# EAGLE library part CS4234 (library Strutz Electronic Industries)
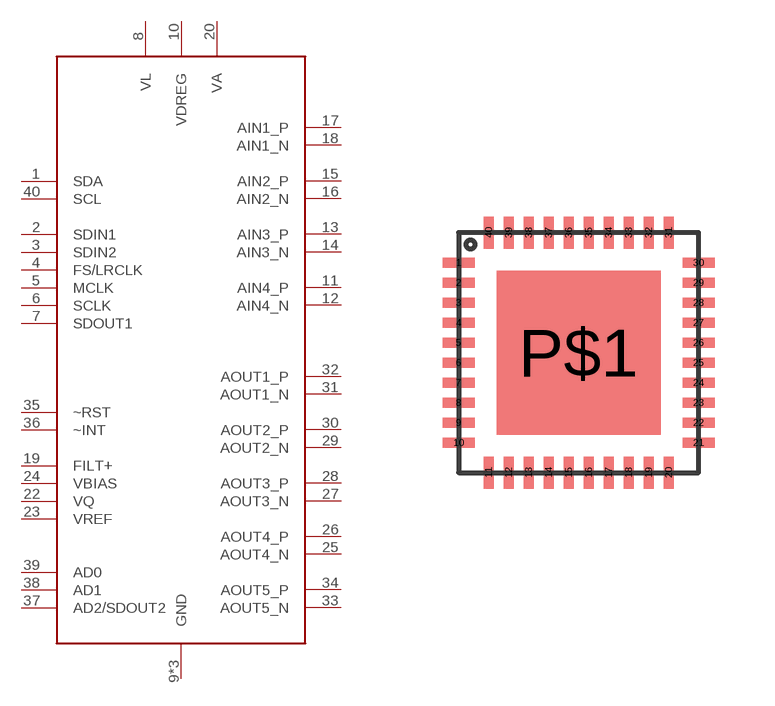
[diagram p52: symbol with the pads of QFN-40; footprint QFN-40]

Designator prefix -

## CS4234  [QFN-40]
1  SDA
2  SDIN1
3  SDIN2
4  FS/LRCLK
5  MCLK
6  SCLK
7  SDOUT1
8  VL
9  GND
10  VDREG
11  AIN4_P
12  AIN4_N
13  AIN3_P
14  AIN3_N
15  AIN2_P
16  AIN2_N
17  AIN1_P
18  AIN1_N
19  FILT+
20  VA
21  GND
22  VQ
23  VREF
24  VBIAS
25  AOUT4_N
26  AOUT4_P
27  AOUT3_N
28  AOUT3_P
29  AOUT2_N
30  AOUT2_P
31  AOUT1_N
32  AOUT1_P
33  AOUT5_N
34  AOUT5_P
35  ~RST
36  ~INT
37  AD2/SDOUT2
38  AD1
39  AD0
40  SCL
P$1  GND

## Footprint QFN-40 (pad centres in mm)
smd 0.8 x 0.25: 1 -3,2.25; 2 -3,1.75; 3 -3,1.25; 4 -3,0.75; 5 -3,0.25; 6 -3,-0.25; 7 -3,-0.75; 8 -3,-1.25; 9 -3,-1.75; 10 -3,-2.25; 21 3,-2.25; 22 3,-1.75; 23 3,-1.25; 24 3,-0.75; 25 3,-0.25; 26 3,0.25; 27 3,0.75; 28 3,1.25; 29 3,1.75; 30 3,2.25
smd 0.25 x 0.8: 11 -2.25,-3; 12 -1.75,-3; 13 -1.25,-3; 14 -0.75,-3; 15 -0.25,-3; 16 0.25,-3; 17 0.75,-3; 18 1.25,-3; 19 1.75,-3; 20 2.25,-3; 31 2.25,3; 32 1.75,3; 33 1.25,3; 34 0.75,3; 35 0.25,3; 36 -0.25,3; 37 -0.75,3; 38 -1.25,3; 39 -1.75,3; 40 -2.25,3
smd 4.1 x 4.1: P$1 0,0